# Altium footprint library Connector_PinSocket_2.54mm.PcbLib: 278 footprints (part 6 of 18)
Each footprint in its own frame and in the unit in brackets; x right, y up, seen from the top. Pads: shape width x height; smd on the part's side, far side on the other; paste and mask are expansions set on the pad; w line width, h text height; cw(c..) or ccw(c..) is an arc to the next point about the centre after c.
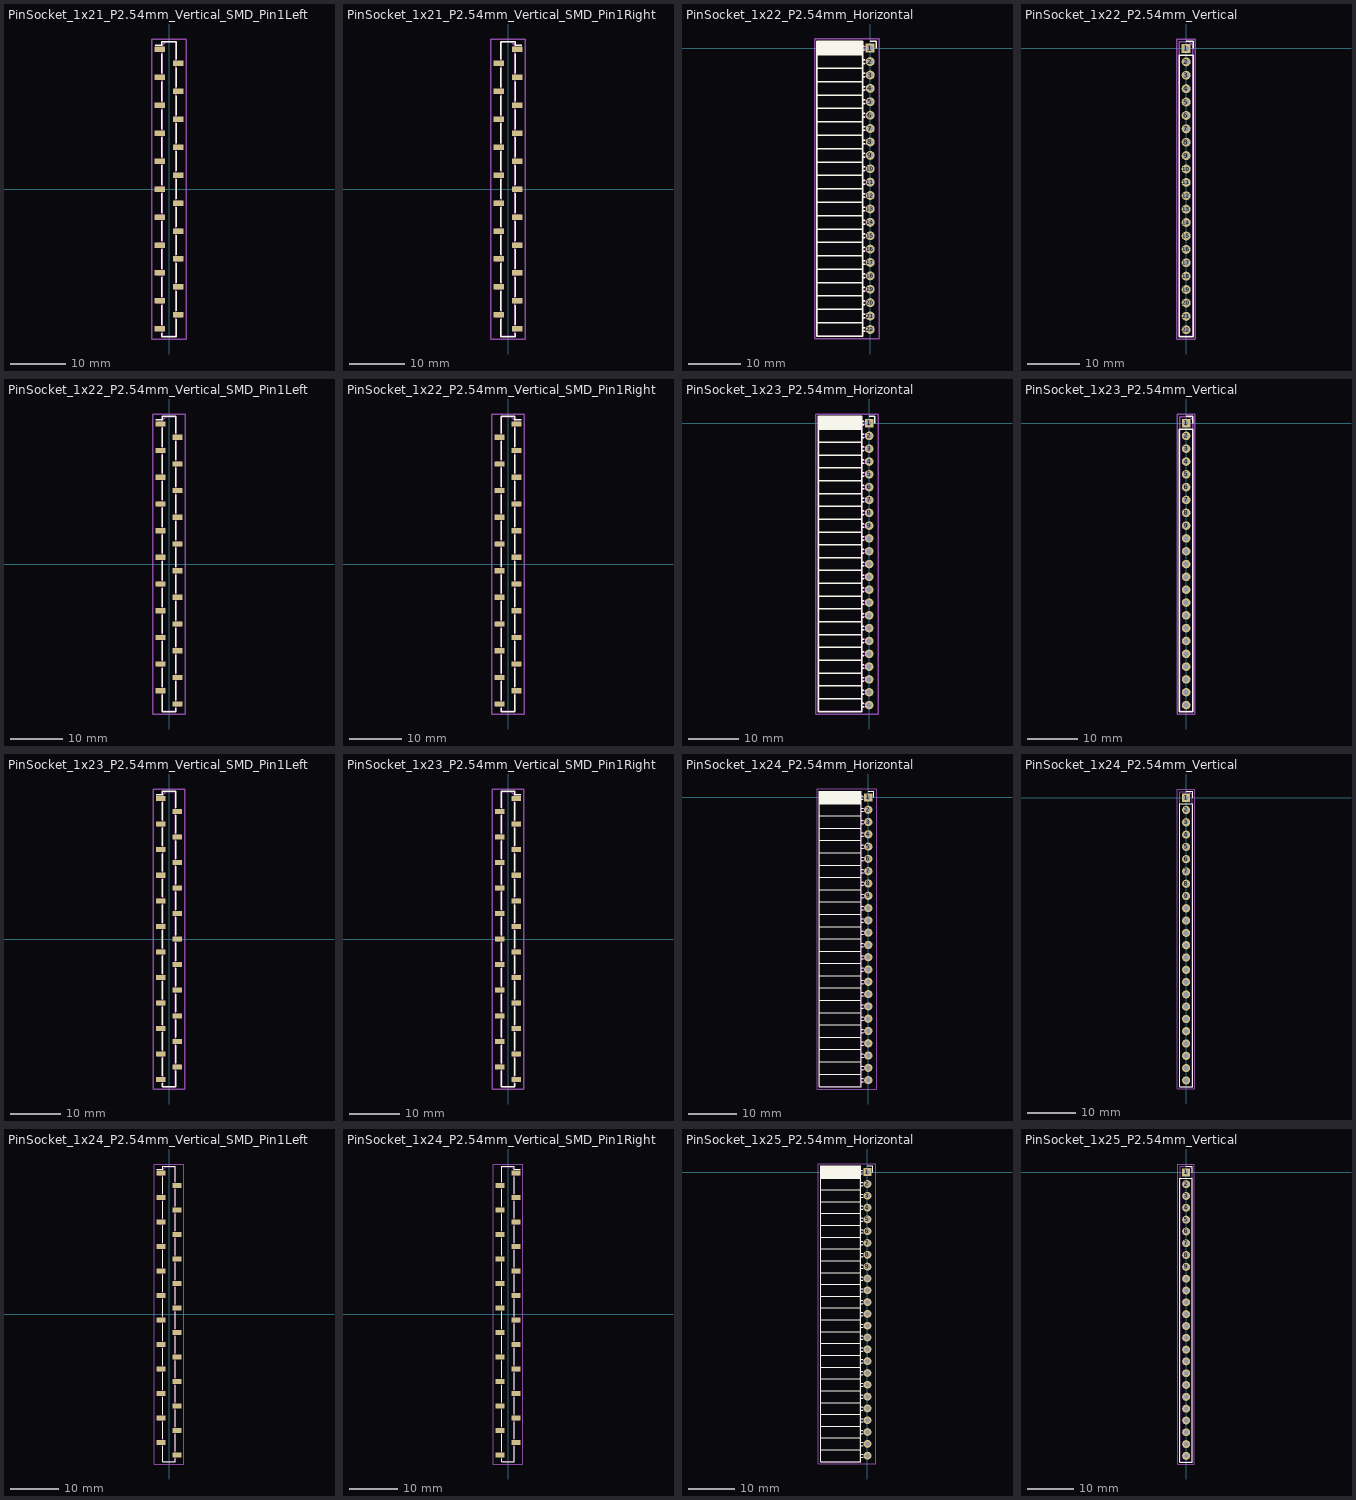
[diagram p5: the footprints below, top view; thin cyan lines are the x and y axes]

## PinSocket_1x21_P2.54mm_Vertical_SMD_Pin1Left [mm]
pads (21):
  rect 1.9x1 smd: 1(-1.65,25.4) 2(1.65,22.86) 3(-1.65,20.32) 4(1.65,17.78) 5(-1.65,15.24) 6(1.65,12.7) 7(-1.65,10.16) 8(1.65,7.62) 9(-1.65,5.08) 10(1.65,2.54) 11(-1.65,0) 12(1.65,-2.54) 13(-1.65,-5.08) 14(1.65,-7.62) 15(-1.65,-10.16) 16(1.65,-12.7) 17(-1.65,-15.24) 18(1.65,-17.78) 19(-1.65,-20.32) 20(1.65,-22.86) 21(-1.65,-25.4)
F.SilkS:
  lines w0.254: -2.54,26.16 -1.33,26.16 -1.33,26.83 1.33,26.83 1.33,23.62 ; -1.33,-26.16 -1.33,-26.83 1.33,-26.83 1.33,-23.62 ; -1.33,-24.64 -1.33,-21.08 ; -1.33,-19.56 -1.33,-16 ; -1.33,-14.48 -1.33,-10.92 ; -1.33,-9.4 -1.33,-5.84 ; -1.33,-4.32 -1.33,-0.76 ; -1.33,0.76 -1.33,4.32 ; -1.33,5.84 -1.33,9.4 ; -1.33,10.92 -1.33,14.48 ; -1.33,16 -1.33,19.56 ; -1.33,21.08 -1.33,24.64 ; 1.33,-22.1 1.33,-18.54 ; 1.33,-17.02 1.33,-13.46 ; 1.33,-11.94 1.33,-8.38 ; 1.33,-6.86 1.33,-3.3 ; 1.33,-1.78 1.33,1.78 ; 1.33,3.3 1.33,6.86 ; 1.33,8.38 1.33,11.94 ; 1.33,13.46 1.33,17.02 ; 1.33,18.54 1.33,22.1
Top Assembly:
  lines w0.254: -1.27,-25.7 -2.27,-25.7 -2.27,-25.1 -1.27,-25.1 ; -1.27,-20.62 -2.27,-20.62 -2.27,-20.02 -1.27,-20.02 ; -1.27,-15.54 -2.27,-15.54 -2.27,-14.94 -1.27,-14.94 ; -1.27,-10.46 -2.27,-10.46 -2.27,-9.86 -1.27,-9.86 ; -1.27,-5.38 -2.27,-5.38 -2.27,-4.78 -1.27,-4.78 ; -1.27,-0.3 -2.27,-0.3 -2.27,0.3 -1.27,0.3 ; -1.27,4.78 -2.27,4.78 -2.27,5.38 -1.27,5.38 ; -1.27,9.86 -2.27,9.86 -2.27,10.46 -1.27,10.46 ; -1.27,14.94 -2.27,14.94 -2.27,15.54 -1.27,15.54 ; -1.27,20.02 -2.27,20.02 -2.27,20.62 -1.27,20.62 ; -1.27,25.1 -2.27,25.1 -2.27,25.7 -1.27,25.7 ; 1.27,-23.16 2.27,-23.16 2.27,-22.56 1.27,-22.56 ; 1.27,-18.08 2.27,-18.08 2.27,-17.48 1.27,-17.48 ; 1.27,-13 2.27,-13 2.27,-12.4 1.27,-12.4 ; 1.27,-7.92 2.27,-7.92 2.27,-7.32 1.27,-7.32 ; 1.27,-2.84 2.27,-2.84 2.27,-2.24 1.27,-2.24 ; 1.27,2.24 2.27,2.24 2.27,2.84 1.27,2.84 ; 1.27,7.32 2.27,7.32 2.27,7.92 1.27,7.92 ; 1.27,12.4 2.27,12.4 2.27,13 1.27,13 ; 1.27,17.48 2.27,17.48 2.27,18.08 1.27,18.08 ; 1.27,22.56 2.27,22.56 2.27,23.16 1.27,23.16 ; -1.27,-26.77 1.27,-26.77 1.27,26.77 -0.635,26.77 -1.27,26.135 -1.27,-26.77
  text "'.Designator'" at 0.84,-4.047 h1
Top Courtyard:
  lines w0.254: -3.1,-27.25 3.1,-27.25 3.1,27.3 -3.1,27.3 -3.1,-27.25
Top Designator:
  text ".Designator" at -7.618,-0.483 h1.52

## PinSocket_1x21_P2.54mm_Vertical_SMD_Pin1Right [mm]
pads (21):
  rect 1.9x1 smd: 1(1.65,25.4) 2(-1.65,22.86) 3(1.65,20.32) 4(-1.65,17.78) 5(1.65,15.24) 6(-1.65,12.7) 7(1.65,10.16) 8(-1.65,7.62) 9(1.65,5.08) 10(-1.65,2.54) 11(1.65,0) 12(-1.65,-2.54) 13(1.65,-5.08) 14(-1.65,-7.62) 15(1.65,-10.16) 16(-1.65,-12.7) 17(1.65,-15.24) 18(-1.65,-17.78) 19(1.65,-20.32) 20(-1.65,-22.86) 21(1.65,-25.4)
F.SilkS:
  lines w0.254: -1.33,-23.62 -1.33,-26.83 1.33,-26.83 1.33,-26.16 ; -1.33,-22.1 -1.33,-18.54 ; -1.33,-17.02 -1.33,-13.46 ; -1.33,-11.94 -1.33,-8.38 ; -1.33,-6.86 -1.33,-3.3 ; -1.33,-1.78 -1.33,1.78 ; -1.33,3.3 -1.33,6.86 ; -1.33,8.38 -1.33,11.94 ; -1.33,13.46 -1.33,17.02 ; -1.33,18.54 -1.33,22.1 ; -1.33,23.62 -1.33,26.83 1.33,26.83 1.33,26.16 2.54,26.16 ; 1.33,-24.64 1.33,-21.08 ; 1.33,-19.56 1.33,-16 ; 1.33,-14.48 1.33,-10.92 ; 1.33,-9.4 1.33,-5.84 ; 1.33,-4.32 1.33,-0.76 ; 1.33,0.76 1.33,4.32 ; 1.33,5.84 1.33,9.4 ; 1.33,10.92 1.33,14.48 ; 1.33,16 1.33,19.56 ; 1.33,21.08 1.33,24.64
Top Assembly:
  lines w0.254: -1.27,-23.16 -2.27,-23.16 -2.27,-22.56 -1.27,-22.56 ; -1.27,-18.08 -2.27,-18.08 -2.27,-17.48 -1.27,-17.48 ; -1.27,-13 -2.27,-13 -2.27,-12.4 -1.27,-12.4 ; -1.27,-7.92 -2.27,-7.92 -2.27,-7.32 -1.27,-7.32 ; -1.27,-2.84 -2.27,-2.84 -2.27,-2.24 -1.27,-2.24 ; -1.27,2.24 -2.27,2.24 -2.27,2.84 -1.27,2.84 ; -1.27,7.32 -2.27,7.32 -2.27,7.92 -1.27,7.92 ; -1.27,12.4 -2.27,12.4 -2.27,13 -1.27,13 ; -1.27,17.48 -2.27,17.48 -2.27,18.08 -1.27,18.08 ; -1.27,22.56 -2.27,22.56 -2.27,23.16 -1.27,23.16 ; 1.27,-25.7 2.27,-25.7 2.27,-25.1 1.27,-25.1 ; 1.27,-20.62 2.27,-20.62 2.27,-20.02 1.27,-20.02 ; 1.27,-15.54 2.27,-15.54 2.27,-14.94 1.27,-14.94 ; 1.27,-10.46 2.27,-10.46 2.27,-9.86 1.27,-9.86 ; 1.27,-5.38 2.27,-5.38 2.27,-4.78 1.27,-4.78 ; 1.27,-0.3 2.27,-0.3 2.27,0.3 1.27,0.3 ; 1.27,4.78 2.27,4.78 2.27,5.38 1.27,5.38 ; 1.27,9.86 2.27,9.86 2.27,10.46 1.27,10.46 ; 1.27,14.94 2.27,14.94 2.27,15.54 1.27,15.54 ; 1.27,20.02 2.27,20.02 2.27,20.62 1.27,20.62 ; 1.27,25.1 2.27,25.1 2.27,25.7 1.27,25.7 ; -1.27,-26.77 1.27,-26.77 1.27,26.135 0.635,26.77 -1.27,26.77 -1.27,-26.77
  text "'.Designator'" at 0.84,-4.047 h1
Top Courtyard:
  lines w0.254: -3.1,-27.25 3.1,-27.25 3.1,27.3 -3.1,27.3 -3.1,-27.25
Top Designator:
  text ".Designator" at -7.618,-0.483 h1.52

## PinSocket_1x22_P2.54mm_Horizontal [mm]
pads (22):
  rect 1.7x1.7 hole 1: 1(0,0)
  round 1.7 hole 1: 2(0,-2.54) 3(0,-5.08) 4(0,-7.62) 5(0,-10.16) 6(0,-12.7) 7(0,-15.24) 8(0,-17.78) 9(0,-20.32) 10(0,-22.86) 11(0,-25.4) 12(0,-27.94) 13(0,-30.48) 14(0,-33.02) 15(0,-35.56) 16(0,-38.1) 17(0,-40.64) 18(0,-43.18) 19(0,-45.72) 20(0,-48.26) 21(0,-50.8) 22(0,-53.34)
F.SilkS:
  lines w0.254: -10.09,-52.07 -1.46,-52.07 ; -10.09,-49.53 -1.46,-49.53 ; -10.09,-46.99 -1.46,-46.99 ; -10.09,-44.45 -1.46,-44.45 ; -10.09,-41.91 -1.46,-41.91 ; -10.09,-39.37 -1.46,-39.37 ; -10.09,-36.83 -1.46,-36.83 ; -10.09,-34.29 -1.46,-34.29 ; -10.09,-31.75 -1.46,-31.75 ; -10.09,-29.21 -1.46,-29.21 ; -10.09,-26.67 -1.46,-26.67 ; -10.09,-24.13 -1.46,-24.13 ; -10.09,-21.59 -1.46,-21.59 ; -10.09,-19.05 -1.46,-19.05 ; -10.09,-16.51 -1.46,-16.51 ; -10.09,-13.97 -1.46,-13.97 ; -10.09,-11.43 -1.46,-11.43 ; -10.09,-8.89 -1.46,-8.89 ; -10.09,-6.35 -1.46,-6.35 ; -10.09,-3.81 -1.46,-3.81 ; -10.09,-1.27 -1.46,-1.27 ; -10.09,-1.152 -1.46,-1.152 ; -10.09,-1.034 -1.46,-1.034 ; -10.09,-0.916 -1.46,-0.916 ; -10.09,-0.798 -1.46,-0.798 ; -10.09,-0.68 -1.46,-0.68 ; -10.09,-0.561 -1.46,-0.561 ; -10.09,-0.443 -1.46,-0.443 ; -10.09,-0.325 -1.46,-0.325 ; -10.09,-0.207 -1.46,-0.207 ; -10.09,-0.089 -1.46,-0.089 ; -10.09,0.029 -1.46,0.029 ; -10.09,0.147 -1.46,0.147 ; -10.09,0.265 -1.46,0.265 ; -10.09,0.383 -1.46,0.383 ; -10.09,0.501 -1.46,0.501 ; -10.09,0.62 -1.46,0.62 ; -10.09,0.738 -1.46,0.738 ; -10.09,0.856 -1.46,0.856 ; -10.09,0.974 -1.46,0.974 ; -10.09,1.092 -1.46,1.092 ; -10.09,1.21 -1.46,1.21 ; -1.46,-53.7 -1.05,-53.7 ; -1.46,-52.98 -1.05,-52.98 ; -1.46,-51.16 -1.05,-51.16 ; -1.46,-50.44 -1.05,-50.44 ; -1.46,-48.62 -1.05,-48.62 ; -1.46,-47.9 -1.05,-47.9 ; -1.46,-46.08 -1.05,-46.08 ; -1.46,-45.36 -1.05,-45.36 ; -1.46,-43.54 -1.05,-43.54 ; -1.46,-42.82 -1.05,-42.82 ; -1.46,-41 -1.05,-41 ; -1.46,-40.28 -1.05,-40.28 ; -1.46,-38.46 -1.05,-38.46 ; -1.46,-37.74 -1.05,-37.74 ; -1.46,-35.92 -1.05,-35.92 ; -1.46,-35.2 -1.05,-35.2 ; -1.46,-33.38 -1.05,-33.38 ; -1.46,-32.66 -1.05,-32.66 ; -1.46,-30.84 -1.05,-30.84 ; -1.46,-30.12 -1.05,-30.12 ; -1.46,-28.3 -1.05,-28.3 ; -1.46,-27.58 -1.05,-27.58 ; -1.46,-25.76 -1.05,-25.76 ; -1.46,-25.04 -1.05,-25.04 ; -1.46,-23.22 -1.05,-23.22 ; -1.46,-22.5 -1.05,-22.5 ; -1.46,-20.68 -1.05,-20.68 ; -1.46,-19.96 -1.05,-19.96 ; -1.46,-18.14 -1.05,-18.14 ; -1.46,-17.42 -1.05,-17.42 ; -1.46,-15.6 -1.05,-15.6 ; -1.46,-14.88 -1.05,-14.88 ; -1.46,-13.06 -1.05,-13.06 ; -1.46,-12.34 -1.05,-12.34 ; -1.46,-10.52 -1.05,-10.52 ; -1.46,-9.8 -1.05,-9.8 ; -1.46,-7.98 -1.05,-7.98 ; -1.46,-7.26 -1.05,-7.26 ; -1.46,-5.44 -1.05,-5.44 ; -1.46,-4.72 -1.05,-4.72 ; -1.46,-2.9 -1.05,-2.9 ; -1.46,-2.18 -1.05,-2.18 ; -1.46,-0.36 -1.11,-0.36 ; -1.46,0.36 -1.11,0.36 ; 0,1.33 1.11,1.33 1.11,0 ; -10.09,-54.67 -1.46,-54.67 -1.46,1.33 -10.09,1.33 -10.09,-54.67
Top Assembly:
  lines w0.254: -1.52,-53.64 0,-53.64 0,-53.04 -1.52,-53.04 ; -1.52,-51.1 0,-51.1 0,-50.5 -1.52,-50.5 ; -1.52,-48.56 0,-48.56 0,-47.96 -1.52,-47.96 ; -1.52,-46.02 0,-46.02 0,-45.42 -1.52,-45.42 ; -1.52,-43.48 0,-43.48 0,-42.88 -1.52,-42.88 ; -1.52,-40.94 0,-40.94 0,-40.34 -1.52,-40.34 ; -1.52,-38.4 0,-38.4 0,-37.8 -1.52,-37.8 ; -1.52,-35.86 0,-35.86 0,-35.26 -1.52,-35.26 ; -1.52,-33.32 0,-33.32 0,-32.72 -1.52,-32.72 ; -1.52,-30.78 0,-30.78 0,-30.18 -1.52,-30.18 ; -1.52,-28.24 0,-28.24 0,-27.64 -1.52,-27.64 ; -1.52,-25.7 0,-25.7 0,-25.1 -1.52,-25.1 ; -1.52,-23.16 0,-23.16 0,-22.56 -1.52,-22.56 ; -1.52,-20.62 0,-20.62 0,-20.02 -1.52,-20.02 ; -1.52,-18.08 0,-18.08 0,-17.48 -1.52,-17.48 ; -1.52,-15.54 0,-15.54 0,-14.94 -1.52,-14.94 ; -1.52,-13 0,-13 0,-12.4 -1.52,-12.4 ; -1.52,-10.46 0,-10.46 0,-9.86 -1.52,-9.86 ; -1.52,-7.92 0,-7.92 0,-7.32 -1.52,-7.32 ; -1.52,-5.38 0,-5.38 0,-4.78 -1.52,-4.78 ; -1.52,-2.84 0,-2.84 0,-2.24 -1.52,-2.24 ; -1.52,-0.3 0,-0.3 0,0.3 -1.52,0.3 ; -1.52,0.3 -1.52,-54.61 -10.03,-54.61 -10.03,1.27 -2.49,1.27 -1.52,0.3
  text "'.Designator'" at -4.935,-30.717 h1
Top Courtyard:
  lines w0.254: -10.55,-55.15 1.75,-55.15 1.75,1.75 -10.55,1.75 -10.55,-55.15
Top Designator:
  text ".Designator" at -12.018,-27.208 h1.52

## PinSocket_1x22_P2.54mm_Vertical [mm]
pads (22):
  rect 1.7x1.7 hole 1: 1(0,0)
  round 1.7 hole 1: 2(0,-2.54) 3(0,-5.08) 4(0,-7.62) 5(0,-10.16) 6(0,-12.7) 7(0,-15.24) 8(0,-17.78) 9(0,-20.32) 10(0,-22.86) 11(0,-25.4) 12(0,-27.94) 13(0,-30.48) 14(0,-33.02) 15(0,-35.56) 16(0,-38.1) 17(0,-40.64) 18(0,-43.18) 19(0,-45.72) 20(0,-48.26) 21(0,-50.8) 22(0,-53.34)
F.SilkS:
  lines w0.254: 0,1.33 1.33,1.33 1.33,0 ; -1.33,-54.67 1.33,-54.67 1.33,-1.27 -1.33,-1.27 -1.33,-54.67
Top Assembly:
  lines w0.254: -1.27,-54.61 1.27,-54.61 1.27,0.635 0.635,1.27 -1.27,1.27 -1.27,-54.61
  text "'.Designator'" at 0.84,-30.717 h1
Top Courtyard:
  lines w0.254: -1.8,-55.1 1.75,-55.1 1.75,1.8 -1.8,1.8 -1.8,-55.1
Top Designator:
  text ".Designator" at -7.643,-27.158 h1.52

## PinSocket_1x22_P2.54mm_Vertical_SMD_Pin1Left [mm]
pads (22):
  rect 1.9x1 smd: 1(-1.65,26.67) 2(1.65,24.13) 3(-1.65,21.59) 4(1.65,19.05) 5(-1.65,16.51) 6(1.65,13.97) 7(-1.65,11.43) 8(1.65,8.89) 9(-1.65,6.35) 10(1.65,3.81) 11(-1.65,1.27) 12(1.65,-1.27) 13(-1.65,-3.81) 14(1.65,-6.35) 15(-1.65,-8.89) 16(1.65,-11.43) 17(-1.65,-13.97) 18(1.65,-16.51) 19(-1.65,-19.05) 20(1.65,-21.59) 21(-1.65,-24.13) 22(1.65,-26.67)
F.SilkS:
  lines w0.254: -2.54,27.43 -1.33,27.43 -1.33,28.1 1.33,28.1 1.33,24.89 ; -1.33,-24.89 -1.33,-28.1 1.33,-28.1 1.33,-27.43 ; -1.33,-23.37 -1.33,-19.81 ; -1.33,-18.29 -1.33,-14.73 ; -1.33,-13.21 -1.33,-9.65 ; -1.33,-8.13 -1.33,-4.57 ; -1.33,-3.05 -1.33,0.51 ; -1.33,2.03 -1.33,5.59 ; -1.33,7.11 -1.33,10.67 ; -1.33,12.19 -1.33,15.75 ; -1.33,17.27 -1.33,20.83 ; -1.33,22.35 -1.33,25.91 ; 1.33,-25.91 1.33,-22.35 ; 1.33,-20.83 1.33,-17.27 ; 1.33,-15.75 1.33,-12.19 ; 1.33,-10.67 1.33,-7.11 ; 1.33,-5.59 1.33,-2.03 ; 1.33,-0.51 1.33,3.05 ; 1.33,4.57 1.33,8.13 ; 1.33,9.65 1.33,13.21 ; 1.33,14.73 1.33,18.29 ; 1.33,19.81 1.33,23.37
Top Assembly:
  lines w0.254: -1.27,-24.43 -2.27,-24.43 -2.27,-23.83 -1.27,-23.83 ; -1.27,-19.35 -2.27,-19.35 -2.27,-18.75 -1.27,-18.75 ; -1.27,-14.27 -2.27,-14.27 -2.27,-13.67 -1.27,-13.67 ; -1.27,-9.19 -2.27,-9.19 -2.27,-8.59 -1.27,-8.59 ; -1.27,-4.11 -2.27,-4.11 -2.27,-3.51 -1.27,-3.51 ; -1.27,0.97 -2.27,0.97 -2.27,1.57 -1.27,1.57 ; -1.27,6.05 -2.27,6.05 -2.27,6.65 -1.27,6.65 ; -1.27,11.13 -2.27,11.13 -2.27,11.73 -1.27,11.73 ; -1.27,16.21 -2.27,16.21 -2.27,16.81 -1.27,16.81 ; -1.27,21.29 -2.27,21.29 -2.27,21.89 -1.27,21.89 ; -1.27,26.37 -2.27,26.37 -2.27,26.97 -1.27,26.97 ; 1.27,-26.97 2.27,-26.97 2.27,-26.37 1.27,-26.37 ; 1.27,-21.89 2.27,-21.89 2.27,-21.29 1.27,-21.29 ; 1.27,-16.81 2.27,-16.81 2.27,-16.21 1.27,-16.21 ; 1.27,-11.73 2.27,-11.73 2.27,-11.13 1.27,-11.13 ; 1.27,-6.65 2.27,-6.65 2.27,-6.05 1.27,-6.05 ; 1.27,-1.57 2.27,-1.57 2.27,-0.97 1.27,-0.97 ; 1.27,3.51 2.27,3.51 2.27,4.11 1.27,4.11 ; 1.27,8.59 2.27,8.59 2.27,9.19 1.27,9.19 ; 1.27,13.67 2.27,13.67 2.27,14.27 1.27,14.27 ; 1.27,18.75 2.27,18.75 2.27,19.35 1.27,19.35 ; 1.27,23.83 2.27,23.83 2.27,24.43 1.27,24.43 ; -1.27,-28.04 1.27,-28.04 1.27,28.04 -0.635,28.04 -1.27,27.405 -1.27,-28.04
  text "'.Designator'" at 0.84,-4.047 h1
Top Courtyard:
  lines w0.254: -3.1,-28.55 3.1,-28.55 3.1,28.55 -3.1,28.55 -3.1,-28.55
Top Designator:
  text ".Designator" at -7.618,-0.508 h1.52

## PinSocket_1x22_P2.54mm_Vertical_SMD_Pin1Right [mm]
pads (22):
  rect 1.9x1 smd: 1(1.65,26.67) 2(-1.65,24.13) 3(1.65,21.59) 4(-1.65,19.05) 5(1.65,16.51) 6(-1.65,13.97) 7(1.65,11.43) 8(-1.65,8.89) 9(1.65,6.35) 10(-1.65,3.81) 11(1.65,1.27) 12(-1.65,-1.27) 13(1.65,-3.81) 14(-1.65,-6.35) 15(1.65,-8.89) 16(-1.65,-11.43) 17(1.65,-13.97) 18(-1.65,-16.51) 19(1.65,-19.05) 20(-1.65,-21.59) 21(1.65,-24.13) 22(-1.65,-26.67)
F.SilkS:
  lines w0.254: -1.33,-27.43 -1.33,-28.1 1.33,-28.1 1.33,-24.89 ; -1.33,-25.91 -1.33,-22.35 ; -1.33,-20.83 -1.33,-17.27 ; -1.33,-15.75 -1.33,-12.19 ; -1.33,-10.67 -1.33,-7.11 ; -1.33,-5.59 -1.33,-2.03 ; -1.33,-0.51 -1.33,3.05 ; -1.33,4.57 -1.33,8.13 ; -1.33,9.65 -1.33,13.21 ; -1.33,14.73 -1.33,18.29 ; -1.33,19.81 -1.33,23.37 ; -1.33,24.89 -1.33,28.1 1.33,28.1 1.33,27.43 2.54,27.43 ; 1.33,-23.37 1.33,-19.81 ; 1.33,-18.29 1.33,-14.73 ; 1.33,-13.21 1.33,-9.65 ; 1.33,-8.13 1.33,-4.57 ; 1.33,-3.05 1.33,0.51 ; 1.33,2.03 1.33,5.59 ; 1.33,7.11 1.33,10.67 ; 1.33,12.19 1.33,15.75 ; 1.33,17.27 1.33,20.83 ; 1.33,22.35 1.33,25.91
Top Assembly:
  lines w0.254: -1.27,-26.97 -2.27,-26.97 -2.27,-26.37 -1.27,-26.37 ; -1.27,-21.89 -2.27,-21.89 -2.27,-21.29 -1.27,-21.29 ; -1.27,-16.81 -2.27,-16.81 -2.27,-16.21 -1.27,-16.21 ; -1.27,-11.73 -2.27,-11.73 -2.27,-11.13 -1.27,-11.13 ; -1.27,-6.65 -2.27,-6.65 -2.27,-6.05 -1.27,-6.05 ; -1.27,-1.57 -2.27,-1.57 -2.27,-0.97 -1.27,-0.97 ; -1.27,3.51 -2.27,3.51 -2.27,4.11 -1.27,4.11 ; -1.27,8.59 -2.27,8.59 -2.27,9.19 -1.27,9.19 ; -1.27,13.67 -2.27,13.67 -2.27,14.27 -1.27,14.27 ; -1.27,18.75 -2.27,18.75 -2.27,19.35 -1.27,19.35 ; -1.27,23.83 -2.27,23.83 -2.27,24.43 -1.27,24.43 ; 1.27,-24.43 2.27,-24.43 2.27,-23.83 1.27,-23.83 ; 1.27,-19.35 2.27,-19.35 2.27,-18.75 1.27,-18.75 ; 1.27,-14.27 2.27,-14.27 2.27,-13.67 1.27,-13.67 ; 1.27,-9.19 2.27,-9.19 2.27,-8.59 1.27,-8.59 ; 1.27,-4.11 2.27,-4.11 2.27,-3.51 1.27,-3.51 ; 1.27,0.97 2.27,0.97 2.27,1.57 1.27,1.57 ; 1.27,6.05 2.27,6.05 2.27,6.65 1.27,6.65 ; 1.27,11.13 2.27,11.13 2.27,11.73 1.27,11.73 ; 1.27,16.21 2.27,16.21 2.27,16.81 1.27,16.81 ; 1.27,21.29 2.27,21.29 2.27,21.89 1.27,21.89 ; 1.27,26.37 2.27,26.37 2.27,26.97 1.27,26.97 ; -1.27,-28.04 1.27,-28.04 1.27,27.405 0.635,28.04 -1.27,28.04 -1.27,-28.04
  text "'.Designator'" at 0.84,-4.047 h1
Top Courtyard:
  lines w0.254: -3.1,-28.55 3.1,-28.55 3.1,28.55 -3.1,28.55 -3.1,-28.55
Top Designator:
  text ".Designator" at -7.618,-0.508 h1.52

## PinSocket_1x23_P2.54mm_Horizontal [mm]
pads (23):
  rect 1.7x1.7 hole 1: 1(0,0)
  round 1.7 hole 1: 2(0,-2.54) 3(0,-5.08) 4(0,-7.62) 5(0,-10.16) 6(0,-12.7) 7(0,-15.24) 8(0,-17.78) 9(0,-20.32) 10(0,-22.86) 11(0,-25.4) 12(0,-27.94) 13(0,-30.48) 14(0,-33.02) 15(0,-35.56) 16(0,-38.1) 17(0,-40.64) 18(0,-43.18) 19(0,-45.72) 20(0,-48.26) 21(0,-50.8) 22(0,-53.34) 23(0,-55.88)
F.SilkS:
  lines w0.254: -10.09,-54.61 -1.46,-54.61 ; -10.09,-52.07 -1.46,-52.07 ; -10.09,-49.53 -1.46,-49.53 ; -10.09,-46.99 -1.46,-46.99 ; -10.09,-44.45 -1.46,-44.45 ; -10.09,-41.91 -1.46,-41.91 ; -10.09,-39.37 -1.46,-39.37 ; -10.09,-36.83 -1.46,-36.83 ; -10.09,-34.29 -1.46,-34.29 ; -10.09,-31.75 -1.46,-31.75 ; -10.09,-29.21 -1.46,-29.21 ; -10.09,-26.67 -1.46,-26.67 ; -10.09,-24.13 -1.46,-24.13 ; -10.09,-21.59 -1.46,-21.59 ; -10.09,-19.05 -1.46,-19.05 ; -10.09,-16.51 -1.46,-16.51 ; -10.09,-13.97 -1.46,-13.97 ; -10.09,-11.43 -1.46,-11.43 ; -10.09,-8.89 -1.46,-8.89 ; -10.09,-6.35 -1.46,-6.35 ; -10.09,-3.81 -1.46,-3.81 ; -10.09,-1.27 -1.46,-1.27 ; -10.09,-1.152 -1.46,-1.152 ; -10.09,-1.034 -1.46,-1.034 ; -10.09,-0.916 -1.46,-0.916 ; -10.09,-0.798 -1.46,-0.798 ; -10.09,-0.68 -1.46,-0.68 ; -10.09,-0.561 -1.46,-0.561 ; -10.09,-0.443 -1.46,-0.443 ; -10.09,-0.325 -1.46,-0.325 ; -10.09,-0.207 -1.46,-0.207 ; -10.09,-0.089 -1.46,-0.089 ; -10.09,0.029 -1.46,0.029 ; -10.09,0.147 -1.46,0.147 ; -10.09,0.265 -1.46,0.265 ; -10.09,0.383 -1.46,0.383 ; -10.09,0.501 -1.46,0.501 ; -10.09,0.62 -1.46,0.62 ; -10.09,0.738 -1.46,0.738 ; -10.09,0.856 -1.46,0.856 ; -10.09,0.974 -1.46,0.974 ; -10.09,1.092 -1.46,1.092 ; -10.09,1.21 -1.46,1.21 ; -1.46,-56.24 -1.05,-56.24 ; -1.46,-55.52 -1.05,-55.52 ; -1.46,-53.7 -1.05,-53.7 ; -1.46,-52.98 -1.05,-52.98 ; -1.46,-51.16 -1.05,-51.16 ; -1.46,-50.44 -1.05,-50.44 ; -1.46,-48.62 -1.05,-48.62 ; -1.46,-47.9 -1.05,-47.9 ; -1.46,-46.08 -1.05,-46.08 ; -1.46,-45.36 -1.05,-45.36 ; -1.46,-43.54 -1.05,-43.54 ; -1.46,-42.82 -1.05,-42.82 ; -1.46,-41 -1.05,-41 ; -1.46,-40.28 -1.05,-40.28 ; -1.46,-38.46 -1.05,-38.46 ; -1.46,-37.74 -1.05,-37.74 ; -1.46,-35.92 -1.05,-35.92 ; -1.46,-35.2 -1.05,-35.2 ; -1.46,-33.38 -1.05,-33.38 ; -1.46,-32.66 -1.05,-32.66 ; -1.46,-30.84 -1.05,-30.84 ; -1.46,-30.12 -1.05,-30.12 ; -1.46,-28.3 -1.05,-28.3 ; -1.46,-27.58 -1.05,-27.58 ; -1.46,-25.76 -1.05,-25.76 ; -1.46,-25.04 -1.05,-25.04 ; -1.46,-23.22 -1.05,-23.22 ; -1.46,-22.5 -1.05,-22.5 ; -1.46,-20.68 -1.05,-20.68 ; -1.46,-19.96 -1.05,-19.96 ; -1.46,-18.14 -1.05,-18.14 ; -1.46,-17.42 -1.05,-17.42 ; -1.46,-15.6 -1.05,-15.6 ; -1.46,-14.88 -1.05,-14.88 ; -1.46,-13.06 -1.05,-13.06 ; -1.46,-12.34 -1.05,-12.34 ; -1.46,-10.52 -1.05,-10.52 ; -1.46,-9.8 -1.05,-9.8 ; -1.46,-7.98 -1.05,-7.98 ; -1.46,-7.26 -1.05,-7.26 ; -1.46,-5.44 -1.05,-5.44 ; -1.46,-4.72 -1.05,-4.72 ; -1.46,-2.9 -1.05,-2.9 ; -1.46,-2.18 -1.05,-2.18 ; -1.46,-0.36 -1.11,-0.36 ; -1.46,0.36 -1.11,0.36 ; 0,1.33 1.11,1.33 1.11,0 ; -10.09,-57.21 -1.46,-57.21 -1.46,1.33 -10.09,1.33 -10.09,-57.21
Top Assembly:
  lines w0.254: -1.52,-56.18 0,-56.18 0,-55.58 -1.52,-55.58 ; -1.52,-53.64 0,-53.64 0,-53.04 -1.52,-53.04 ; -1.52,-51.1 0,-51.1 0,-50.5 -1.52,-50.5 ; -1.52,-48.56 0,-48.56 0,-47.96 -1.52,-47.96 ; -1.52,-46.02 0,-46.02 0,-45.42 -1.52,-45.42 ; -1.52,-43.48 0,-43.48 0,-42.88 -1.52,-42.88 ; -1.52,-40.94 0,-40.94 0,-40.34 -1.52,-40.34 ; -1.52,-38.4 0,-38.4 0,-37.8 -1.52,-37.8 ; -1.52,-35.86 0,-35.86 0,-35.26 -1.52,-35.26 ; -1.52,-33.32 0,-33.32 0,-32.72 -1.52,-32.72 ; -1.52,-30.78 0,-30.78 0,-30.18 -1.52,-30.18 ; -1.52,-28.24 0,-28.24 0,-27.64 -1.52,-27.64 ; -1.52,-25.7 0,-25.7 0,-25.1 -1.52,-25.1 ; -1.52,-23.16 0,-23.16 0,-22.56 -1.52,-22.56 ; -1.52,-20.62 0,-20.62 0,-20.02 -1.52,-20.02 ; -1.52,-18.08 0,-18.08 0,-17.48 -1.52,-17.48 ; -1.52,-15.54 0,-15.54 0,-14.94 -1.52,-14.94 ; -1.52,-13 0,-13 0,-12.4 -1.52,-12.4 ; -1.52,-10.46 0,-10.46 0,-9.86 -1.52,-9.86 ; -1.52,-7.92 0,-7.92 0,-7.32 -1.52,-7.32 ; -1.52,-5.38 0,-5.38 0,-4.78 -1.52,-4.78 ; -1.52,-2.84 0,-2.84 0,-2.24 -1.52,-2.24 ; -1.52,-0.3 0,-0.3 0,0.3 -1.52,0.3 ; -1.52,0.3 -1.52,-57.15 -10.03,-57.15 -10.03,1.27 -2.49,1.27 -1.52,0.3
  text "'.Designator'" at -4.935,-31.987 h1
Top Courtyard:
  lines w0.254: -10.55,-57.65 1.75,-57.65 1.75,1.8 -10.55,1.8 -10.55,-57.65
Top Designator:
  text ".Designator" at -12.018,-28.433 h1.52

## PinSocket_1x23_P2.54mm_Vertical [mm]
pads (23):
  rect 1.7x1.7 hole 1: 1(0,0)
  round 1.7 hole 1: 2(0,-2.54) 3(0,-5.08) 4(0,-7.62) 5(0,-10.16) 6(0,-12.7) 7(0,-15.24) 8(0,-17.78) 9(0,-20.32) 10(0,-22.86) 11(0,-25.4) 12(0,-27.94) 13(0,-30.48) 14(0,-33.02) 15(0,-35.56) 16(0,-38.1) 17(0,-40.64) 18(0,-43.18) 19(0,-45.72) 20(0,-48.26) 21(0,-50.8) 22(0,-53.34) 23(0,-55.88)
F.SilkS:
  lines w0.254: 0,1.33 1.33,1.33 1.33,0 ; -1.33,-57.21 1.33,-57.21 1.33,-1.27 -1.33,-1.27 -1.33,-57.21
Top Assembly:
  lines w0.254: -1.27,-57.15 1.27,-57.15 1.27,0.635 0.635,1.27 -1.27,1.27 -1.27,-57.15
  text "'.Designator'" at 0.84,-31.987 h1
Top Courtyard:
  lines w0.254: -1.8,-57.65 1.75,-57.65 1.75,1.8 -1.8,1.8 -1.8,-57.65
Top Designator:
  text ".Designator" at -7.643,-28.433 h1.52

## PinSocket_1x23_P2.54mm_Vertical_SMD_Pin1Left [mm]
pads (23):
  rect 1.9x1 smd: 1(-1.65,27.94) 2(1.65,25.4) 3(-1.65,22.86) 4(1.65,20.32) 5(-1.65,17.78) 6(1.65,15.24) 7(-1.65,12.7) 8(1.65,10.16) 9(-1.65,7.62) 10(1.65,5.08) 11(-1.65,2.54) 12(1.65,0) 13(-1.65,-2.54) 14(1.65,-5.08) 15(-1.65,-7.62) 16(1.65,-10.16) 17(-1.65,-12.7) 18(1.65,-15.24) 19(-1.65,-17.78) 20(1.65,-20.32) 21(-1.65,-22.86) 22(1.65,-25.4) 23(-1.65,-27.94)
F.SilkS:
  lines w0.254: -2.54,28.7 -1.33,28.7 -1.33,29.37 1.33,29.37 1.33,26.16 ; -1.33,-28.7 -1.33,-29.37 1.33,-29.37 1.33,-26.16 ; -1.33,-27.18 -1.33,-23.62 ; -1.33,-22.1 -1.33,-18.54 ; -1.33,-17.02 -1.33,-13.46 ; -1.33,-11.94 -1.33,-8.38 ; -1.33,-6.86 -1.33,-3.3 ; -1.33,-1.78 -1.33,1.78 ; -1.33,3.3 -1.33,6.86 ; -1.33,8.38 -1.33,11.94 ; -1.33,13.46 -1.33,17.02 ; -1.33,18.54 -1.33,22.1 ; -1.33,23.62 -1.33,27.18 ; 1.33,-24.64 1.33,-21.08 ; 1.33,-19.56 1.33,-16 ; 1.33,-14.48 1.33,-10.92 ; 1.33,-9.4 1.33,-5.84 ; 1.33,-4.32 1.33,-0.76 ; 1.33,0.76 1.33,4.32 ; 1.33,5.84 1.33,9.4 ; 1.33,10.92 1.33,14.48 ; 1.33,16 1.33,19.56 ; 1.33,21.08 1.33,24.64
Top Assembly:
  lines w0.254: -1.27,-28.24 -2.27,-28.24 -2.27,-27.64 -1.27,-27.64 ; -1.27,-23.16 -2.27,-23.16 -2.27,-22.56 -1.27,-22.56 ; -1.27,-18.08 -2.27,-18.08 -2.27,-17.48 -1.27,-17.48 ; -1.27,-13 -2.27,-13 -2.27,-12.4 -1.27,-12.4 ; -1.27,-7.92 -2.27,-7.92 -2.27,-7.32 -1.27,-7.32 ; -1.27,-2.84 -2.27,-2.84 -2.27,-2.24 -1.27,-2.24 ; -1.27,2.24 -2.27,2.24 -2.27,2.84 -1.27,2.84 ; -1.27,7.32 -2.27,7.32 -2.27,7.92 -1.27,7.92 ; -1.27,12.4 -2.27,12.4 -2.27,13 -1.27,13 ; -1.27,17.48 -2.27,17.48 -2.27,18.08 -1.27,18.08 ; -1.27,22.56 -2.27,22.56 -2.27,23.16 -1.27,23.16 ; -1.27,27.64 -2.27,27.64 -2.27,28.24 -1.27,28.24 ; 1.27,-25.7 2.27,-25.7 2.27,-25.1 1.27,-25.1 ; 1.27,-20.62 2.27,-20.62 2.27,-20.02 1.27,-20.02 ; 1.27,-15.54 2.27,-15.54 2.27,-14.94 1.27,-14.94 ; 1.27,-10.46 2.27,-10.46 2.27,-9.86 1.27,-9.86 ; 1.27,-5.38 2.27,-5.38 2.27,-4.78 1.27,-4.78 ; 1.27,-0.3 2.27,-0.3 2.27,0.3 1.27,0.3 ; 1.27,4.78 2.27,4.78 2.27,5.38 1.27,5.38 ; 1.27,9.86 2.27,9.86 2.27,10.46 1.27,10.46 ; 1.27,14.94 2.27,14.94 2.27,15.54 1.27,15.54 ; 1.27,20.02 2.27,20.02 2.27,20.62 1.27,20.62 ; 1.27,25.1 2.27,25.1 2.27,25.7 1.27,25.7 ; -1.27,-29.31 1.27,-29.31 1.27,29.31 -0.635,29.31 -1.27,28.675 -1.27,-29.31
  text "'.Designator'" at 0.84,-4.047 h1
Top Courtyard:
  lines w0.254: -3.1,-29.8 3.1,-29.8 3.1,29.85 -3.1,29.85 -3.1,-29.8
Top Designator:
  text ".Designator" at -7.618,-0.483 h1.52

## PinSocket_1x23_P2.54mm_Vertical_SMD_Pin1Right [mm]
pads (23):
  rect 1.9x1 smd: 1(1.65,27.94) 2(-1.65,25.4) 3(1.65,22.86) 4(-1.65,20.32) 5(1.65,17.78) 6(-1.65,15.24) 7(1.65,12.7) 8(-1.65,10.16) 9(1.65,7.62) 10(-1.65,5.08) 11(1.65,2.54) 12(-1.65,0) 13(1.65,-2.54) 14(-1.65,-5.08) 15(1.65,-7.62) 16(-1.65,-10.16) 17(1.65,-12.7) 18(-1.65,-15.24) 19(1.65,-17.78) 20(-1.65,-20.32) 21(1.65,-22.86) 22(-1.65,-25.4) 23(1.65,-27.94)
F.SilkS:
  lines w0.254: -1.33,-26.16 -1.33,-29.37 1.33,-29.37 1.33,-28.7 ; -1.33,-24.64 -1.33,-21.08 ; -1.33,-19.56 -1.33,-16 ; -1.33,-14.48 -1.33,-10.92 ; -1.33,-9.4 -1.33,-5.84 ; -1.33,-4.32 -1.33,-0.76 ; -1.33,0.76 -1.33,4.32 ; -1.33,5.84 -1.33,9.4 ; -1.33,10.92 -1.33,14.48 ; -1.33,16 -1.33,19.56 ; -1.33,21.08 -1.33,24.64 ; -1.33,26.16 -1.33,29.37 1.33,29.37 1.33,28.7 2.54,28.7 ; 1.33,-27.18 1.33,-23.62 ; 1.33,-22.1 1.33,-18.54 ; 1.33,-17.02 1.33,-13.46 ; 1.33,-11.94 1.33,-8.38 ; 1.33,-6.86 1.33,-3.3 ; 1.33,-1.78 1.33,1.78 ; 1.33,3.3 1.33,6.86 ; 1.33,8.38 1.33,11.94 ; 1.33,13.46 1.33,17.02 ; 1.33,18.54 1.33,22.1 ; 1.33,23.62 1.33,27.18
Top Assembly:
  lines w0.254: -1.27,-25.7 -2.27,-25.7 -2.27,-25.1 -1.27,-25.1 ; -1.27,-20.62 -2.27,-20.62 -2.27,-20.02 -1.27,-20.02 ; -1.27,-15.54 -2.27,-15.54 -2.27,-14.94 -1.27,-14.94 ; -1.27,-10.46 -2.27,-10.46 -2.27,-9.86 -1.27,-9.86 ; -1.27,-5.38 -2.27,-5.38 -2.27,-4.78 -1.27,-4.78 ; -1.27,-0.3 -2.27,-0.3 -2.27,0.3 -1.27,0.3 ; -1.27,4.78 -2.27,4.78 -2.27,5.38 -1.27,5.38 ; -1.27,9.86 -2.27,9.86 -2.27,10.46 -1.27,10.46 ; -1.27,14.94 -2.27,14.94 -2.27,15.54 -1.27,15.54 ; -1.27,20.02 -2.27,20.02 -2.27,20.62 -1.27,20.62 ; -1.27,25.1 -2.27,25.1 -2.27,25.7 -1.27,25.7 ; 1.27,-28.24 2.27,-28.24 2.27,-27.64 1.27,-27.64 ; 1.27,-23.16 2.27,-23.16 2.27,-22.56 1.27,-22.56 ; 1.27,-18.08 2.27,-18.08 2.27,-17.48 1.27,-17.48 ; 1.27,-13 2.27,-13 2.27,-12.4 1.27,-12.4 ; 1.27,-7.92 2.27,-7.92 2.27,-7.32 1.27,-7.32 ; 1.27,-2.84 2.27,-2.84 2.27,-2.24 1.27,-2.24 ; 1.27,2.24 2.27,2.24 2.27,2.84 1.27,2.84 ; 1.27,7.32 2.27,7.32 2.27,7.92 1.27,7.92 ; 1.27,12.4 2.27,12.4 2.27,13 1.27,13 ; 1.27,17.48 2.27,17.48 2.27,18.08 1.27,18.08 ; 1.27,22.56 2.27,22.56 2.27,23.16 1.27,23.16 ; 1.27,27.64 2.27,27.64 2.27,28.24 1.27,28.24 ; -1.27,-29.31 1.27,-29.31 1.27,28.675 0.635,29.31 -1.27,29.31 -1.27,-29.31
  text "'.Designator'" at 0.84,-4.047 h1
Top Courtyard:
  lines w0.254: -3.1,-29.8 3.1,-29.8 3.1,29.85 -3.1,29.85 -3.1,-29.8
Top Designator:
  text ".Designator" at -7.618,-0.483 h1.52

## PinSocket_1x24_P2.54mm_Horizontal [mm]
pads (24):
  rect 1.7x1.7 hole 1: 1(0,0)
  round 1.7 hole 1: 2(0,-2.54) 3(0,-5.08) 4(0,-7.62) 5(0,-10.16) 6(0,-12.7) 7(0,-15.24) 8(0,-17.78) 9(0,-20.32) 10(0,-22.86) 11(0,-25.4) 12(0,-27.94) 13(0,-30.48) 14(0,-33.02) 15(0,-35.56) 16(0,-38.1) 17(0,-40.64) 18(0,-43.18) 19(0,-45.72) 20(0,-48.26) 21(0,-50.8) 22(0,-53.34) 23(0,-55.88) 24(0,-58.42)
F.SilkS:
  lines w0.254: -10.09,-57.15 -1.46,-57.15 ; -10.09,-54.61 -1.46,-54.61 ; -10.09,-52.07 -1.46,-52.07 ; -10.09,-49.53 -1.46,-49.53 ; -10.09,-46.99 -1.46,-46.99 ; -10.09,-44.45 -1.46,-44.45 ; -10.09,-41.91 -1.46,-41.91 ; -10.09,-39.37 -1.46,-39.37 ; -10.09,-36.83 -1.46,-36.83 ; -10.09,-34.29 -1.46,-34.29 ; -10.09,-31.75 -1.46,-31.75 ; -10.09,-29.21 -1.46,-29.21 ; -10.09,-26.67 -1.46,-26.67 ; -10.09,-24.13 -1.46,-24.13 ; -10.09,-21.59 -1.46,-21.59 ; -10.09,-19.05 -1.46,-19.05 ; -10.09,-16.51 -1.46,-16.51 ; -10.09,-13.97 -1.46,-13.97 ; -10.09,-11.43 -1.46,-11.43 ; -10.09,-8.89 -1.46,-8.89 ; -10.09,-6.35 -1.46,-6.35 ; -10.09,-3.81 -1.46,-3.81 ; -10.09,-1.27 -1.46,-1.27 ; -10.09,-1.152 -1.46,-1.152 ; -10.09,-1.034 -1.46,-1.034 ; -10.09,-0.916 -1.46,-0.916 ; -10.09,-0.798 -1.46,-0.798 ; -10.09,-0.68 -1.46,-0.68 ; -10.09,-0.561 -1.46,-0.561 ; -10.09,-0.443 -1.46,-0.443 ; -10.09,-0.325 -1.46,-0.325 ; -10.09,-0.207 -1.46,-0.207 ; -10.09,-0.089 -1.46,-0.089 ; -10.09,0.029 -1.46,0.029 ; -10.09,0.147 -1.46,0.147 ; -10.09,0.265 -1.46,0.265 ; -10.09,0.383 -1.46,0.383 ; -10.09,0.501 -1.46,0.501 ; -10.09,0.62 -1.46,0.62 ; -10.09,0.738 -1.46,0.738 ; -10.09,0.856 -1.46,0.856 ; -10.09,0.974 -1.46,0.974 ; -10.09,1.092 -1.46,1.092 ; -10.09,1.21 -1.46,1.21 ; -1.46,-58.78 -1.05,-58.78 ; -1.46,-58.06 -1.05,-58.06 ; -1.46,-56.24 -1.05,-56.24 ; -1.46,-55.52 -1.05,-55.52 ; -1.46,-53.7 -1.05,-53.7 ; -1.46,-52.98 -1.05,-52.98 ; -1.46,-51.16 -1.05,-51.16 ; -1.46,-50.44 -1.05,-50.44 ; -1.46,-48.62 -1.05,-48.62 ; -1.46,-47.9 -1.05,-47.9 ; -1.46,-46.08 -1.05,-46.08 ; -1.46,-45.36 -1.05,-45.36 ; -1.46,-43.54 -1.05,-43.54 ; -1.46,-42.82 -1.05,-42.82 ; -1.46,-41 -1.05,-41 ; -1.46,-40.28 -1.05,-40.28 ; -1.46,-38.46 -1.05,-38.46 ; -1.46,-37.74 -1.05,-37.74 ; -1.46,-35.92 -1.05,-35.92 ; -1.46,-35.2 -1.05,-35.2 ; -1.46,-33.38 -1.05,-33.38 ; -1.46,-32.66 -1.05,-32.66 ; -1.46,-30.84 -1.05,-30.84 ; -1.46,-30.12 -1.05,-30.12 ; -1.46,-28.3 -1.05,-28.3 ; -1.46,-27.58 -1.05,-27.58 ; -1.46,-25.76 -1.05,-25.76 ; -1.46,-25.04 -1.05,-25.04 ; -1.46,-23.22 -1.05,-23.22 ; -1.46,-22.5 -1.05,-22.5 ; -1.46,-20.68 -1.05,-20.68 ; -1.46,-19.96 -1.05,-19.96 ; -1.46,-18.14 -1.05,-18.14 ; -1.46,-17.42 -1.05,-17.42 ; -1.46,-15.6 -1.05,-15.6 ; -1.46,-14.88 -1.05,-14.88 ; -1.46,-13.06 -1.05,-13.06 ; -1.46,-12.34 -1.05,-12.34 ; -1.46,-10.52 -1.05,-10.52 ; -1.46,-9.8 -1.05,-9.8 ; -1.46,-7.98 -1.05,-7.98 ; -1.46,-7.26 -1.05,-7.26 ; -1.46,-5.44 -1.05,-5.44 ; -1.46,-4.72 -1.05,-4.72 ; -1.46,-2.9 -1.05,-2.9 ; -1.46,-2.18 -1.05,-2.18 ; -1.46,-0.36 -1.11,-0.36 ; -1.46,0.36 -1.11,0.36 ; 0,1.33 1.11,1.33 1.11,0 ; -10.09,-59.75 -1.46,-59.75 -1.46,1.33 -10.09,1.33 -10.09,-59.75
Top Assembly:
  lines w0.254: -1.52,-58.72 0,-58.72 0,-58.12 -1.52,-58.12 ; -1.52,-56.18 0,-56.18 0,-55.58 -1.52,-55.58 ; -1.52,-53.64 0,-53.64 0,-53.04 -1.52,-53.04 ; -1.52,-51.1 0,-51.1 0,-50.5 -1.52,-50.5 ; -1.52,-48.56 0,-48.56 0,-47.96 -1.52,-47.96 ; -1.52,-46.02 0,-46.02 0,-45.42 -1.52,-45.42 ; -1.52,-43.48 0,-43.48 0,-42.88 -1.52,-42.88 ; -1.52,-40.94 0,-40.94 0,-40.34 -1.52,-40.34 ; -1.52,-38.4 0,-38.4 0,-37.8 -1.52,-37.8 ; -1.52,-35.86 0,-35.86 0,-35.26 -1.52,-35.26 ; -1.52,-33.32 0,-33.32 0,-32.72 -1.52,-32.72 ; -1.52,-30.78 0,-30.78 0,-30.18 -1.52,-30.18 ; -1.52,-28.24 0,-28.24 0,-27.64 -1.52,-27.64 ; -1.52,-25.7 0,-25.7 0,-25.1 -1.52,-25.1 ; -1.52,-23.16 0,-23.16 0,-22.56 -1.52,-22.56 ; -1.52,-20.62 0,-20.62 0,-20.02 -1.52,-20.02 ; -1.52,-18.08 0,-18.08 0,-17.48 -1.52,-17.48 ; -1.52,-15.54 0,-15.54 0,-14.94 -1.52,-14.94 ; -1.52,-13 0,-13 0,-12.4 -1.52,-12.4 ; -1.52,-10.46 0,-10.46 0,-9.86 -1.52,-9.86 ; -1.52,-7.92 0,-7.92 0,-7.32 -1.52,-7.32 ; -1.52,-5.38 0,-5.38 0,-4.78 -1.52,-4.78 ; -1.52,-2.84 0,-2.84 0,-2.24 -1.52,-2.24 ; -1.52,-0.3 0,-0.3 0,0.3 -1.52,0.3 ; -1.52,0.3 -1.52,-59.69 -10.03,-59.69 -10.03,1.27 -2.49,1.27 -1.52,0.3
  text "'.Designator'" at -4.935,-33.257 h1
Top Courtyard:
  lines w0.254: -10.55,-60.25 1.75,-60.25 1.75,1.75 -10.55,1.75 -10.55,-60.25
Top Designator:
  text ".Designator" at -12.018,-29.758 h1.52

## PinSocket_1x24_P2.54mm_Vertical [mm]
pads (24):
  rect 1.7x1.7 hole 1: 1(0,0)
  round 1.7 hole 1: 2(0,-2.54) 3(0,-5.08) 4(0,-7.62) 5(0,-10.16) 6(0,-12.7) 7(0,-15.24) 8(0,-17.78) 9(0,-20.32) 10(0,-22.86) 11(0,-25.4) 12(0,-27.94) 13(0,-30.48) 14(0,-33.02) 15(0,-35.56) 16(0,-38.1) 17(0,-40.64) 18(0,-43.18) 19(0,-45.72) 20(0,-48.26) 21(0,-50.8) 22(0,-53.34) 23(0,-55.88) 24(0,-58.42)
F.SilkS:
  lines w0.254: 0,1.33 1.33,1.33 1.33,0 ; -1.33,-59.75 1.33,-59.75 1.33,-1.27 -1.33,-1.27 -1.33,-59.75
Top Assembly:
  lines w0.254: -1.27,-59.69 1.27,-59.69 1.27,0.635 0.635,1.27 -1.27,1.27 -1.27,-59.69
  text "'.Designator'" at 0.84,-33.257 h1
Top Courtyard:
  lines w0.254: -1.8,-60.2 1.75,-60.2 1.75,1.8 -1.8,1.8 -1.8,-60.2
Top Designator:
  text ".Designator" at -7.643,-29.708 h1.52

## PinSocket_1x24_P2.54mm_Vertical_SMD_Pin1Left [mm]
pads (24):
  rect 1.9x1 smd: 1(-1.65,29.21) 2(1.65,26.67) 3(-1.65,24.13) 4(1.65,21.59) 5(-1.65,19.05) 6(1.65,16.51) 7(-1.65,13.97) 8(1.65,11.43) 9(-1.65,8.89) 10(1.65,6.35) 11(-1.65,3.81) 12(1.65,1.27) 13(-1.65,-1.27) 14(1.65,-3.81) 15(-1.65,-6.35) 16(1.65,-8.89) 17(-1.65,-11.43) 18(1.65,-13.97) 19(-1.65,-16.51) 20(1.65,-19.05) 21(-1.65,-21.59) 22(1.65,-24.13) 23(-1.65,-26.67) 24(1.65,-29.21)
F.SilkS:
  lines w0.254: -2.54,29.97 -1.33,29.97 -1.33,30.64 1.33,30.64 1.33,27.43 ; -1.33,-27.43 -1.33,-30.64 1.33,-30.64 1.33,-29.97 ; -1.33,-25.91 -1.33,-22.35 ; -1.33,-20.83 -1.33,-17.27 ; -1.33,-15.75 -1.33,-12.19 ; -1.33,-10.67 -1.33,-7.11 ; -1.33,-5.59 -1.33,-2.03 ; -1.33,-0.51 -1.33,3.05 ; -1.33,4.57 -1.33,8.13 ; -1.33,9.65 -1.33,13.21 ; -1.33,14.73 -1.33,18.29 ; -1.33,19.81 -1.33,23.37 ; -1.33,24.89 -1.33,28.45 ; 1.33,-28.45 1.33,-24.89 ; 1.33,-23.37 1.33,-19.81 ; 1.33,-18.29 1.33,-14.73 ; 1.33,-13.21 1.33,-9.65 ; 1.33,-8.13 1.33,-4.57 ; 1.33,-3.05 1.33,0.51 ; 1.33,2.03 1.33,5.59 ; 1.33,7.11 1.33,10.67 ; 1.33,12.19 1.33,15.75 ; 1.33,17.27 1.33,20.83 ; 1.33,22.35 1.33,25.91
Top Assembly:
  lines w0.254: -1.27,-26.97 -2.27,-26.97 -2.27,-26.37 -1.27,-26.37 ; -1.27,-21.89 -2.27,-21.89 -2.27,-21.29 -1.27,-21.29 ; -1.27,-16.81 -2.27,-16.81 -2.27,-16.21 -1.27,-16.21 ; -1.27,-11.73 -2.27,-11.73 -2.27,-11.13 -1.27,-11.13 ; -1.27,-6.65 -2.27,-6.65 -2.27,-6.05 -1.27,-6.05 ; -1.27,-1.57 -2.27,-1.57 -2.27,-0.97 -1.27,-0.97 ; -1.27,3.51 -2.27,3.51 -2.27,4.11 -1.27,4.11 ; -1.27,8.59 -2.27,8.59 -2.27,9.19 -1.27,9.19 ; -1.27,13.67 -2.27,13.67 -2.27,14.27 -1.27,14.27 ; -1.27,18.75 -2.27,18.75 -2.27,19.35 -1.27,19.35 ; -1.27,23.83 -2.27,23.83 -2.27,24.43 -1.27,24.43 ; -1.27,28.91 -2.27,28.91 -2.27,29.51 -1.27,29.51 ; 1.27,-29.51 2.27,-29.51 2.27,-28.91 1.27,-28.91 ; 1.27,-24.43 2.27,-24.43 2.27,-23.83 1.27,-23.83 ; 1.27,-19.35 2.27,-19.35 2.27,-18.75 1.27,-18.75 ; 1.27,-14.27 2.27,-14.27 2.27,-13.67 1.27,-13.67 ; 1.27,-9.19 2.27,-9.19 2.27,-8.59 1.27,-8.59 ; 1.27,-4.11 2.27,-4.11 2.27,-3.51 1.27,-3.51 ; 1.27,0.97 2.27,0.97 2.27,1.57 1.27,1.57 ; 1.27,6.05 2.27,6.05 2.27,6.65 1.27,6.65 ; 1.27,11.13 2.27,11.13 2.27,11.73 1.27,11.73 ; 1.27,16.21 2.27,16.21 2.27,16.81 1.27,16.81 ; 1.27,21.29 2.27,21.29 2.27,21.89 1.27,21.89 ; 1.27,26.37 2.27,26.37 2.27,26.97 1.27,26.97 ; -1.27,-30.58 1.27,-30.58 1.27,30.58 -0.635,30.58 -1.27,29.945 -1.27,-30.58
  text "'.Designator'" at 0.84,-4.047 h1
Top Courtyard:
  lines w0.254: -3.1,-31.1 3.1,-31.1 3.1,31.1 -3.1,31.1 -3.1,-31.1
Top Designator:
  text ".Designator" at -7.618,-0.508 h1.52

## PinSocket_1x24_P2.54mm_Vertical_SMD_Pin1Right [mm]
pads (24):
  rect 1.9x1 smd: 1(1.65,29.21) 2(-1.65,26.67) 3(1.65,24.13) 4(-1.65,21.59) 5(1.65,19.05) 6(-1.65,16.51) 7(1.65,13.97) 8(-1.65,11.43) 9(1.65,8.89) 10(-1.65,6.35) 11(1.65,3.81) 12(-1.65,1.27) 13(1.65,-1.27) 14(-1.65,-3.81) 15(1.65,-6.35) 16(-1.65,-8.89) 17(1.65,-11.43) 18(-1.65,-13.97) 19(1.65,-16.51) 20(-1.65,-19.05) 21(1.65,-21.59) 22(-1.65,-24.13) 23(1.65,-26.67) 24(-1.65,-29.21)
F.SilkS:
  lines w0.254: -1.33,-29.97 -1.33,-30.64 1.33,-30.64 1.33,-27.43 ; -1.33,-28.45 -1.33,-24.89 ; -1.33,-23.37 -1.33,-19.81 ; -1.33,-18.29 -1.33,-14.73 ; -1.33,-13.21 -1.33,-9.65 ; -1.33,-8.13 -1.33,-4.57 ; -1.33,-3.05 -1.33,0.51 ; -1.33,2.03 -1.33,5.59 ; -1.33,7.11 -1.33,10.67 ; -1.33,12.19 -1.33,15.75 ; -1.33,17.27 -1.33,20.83 ; -1.33,22.35 -1.33,25.91 ; -1.33,27.43 -1.33,30.64 1.33,30.64 1.33,29.97 2.54,29.97 ; 1.33,-25.91 1.33,-22.35 ; 1.33,-20.83 1.33,-17.27 ; 1.33,-15.75 1.33,-12.19 ; 1.33,-10.67 1.33,-7.11 ; 1.33,-5.59 1.33,-2.03 ; 1.33,-0.51 1.33,3.05 ; 1.33,4.57 1.33,8.13 ; 1.33,9.65 1.33,13.21 ; 1.33,14.73 1.33,18.29 ; 1.33,19.81 1.33,23.37 ; 1.33,24.89 1.33,28.45
Top Assembly:
  lines w0.254: -1.27,-29.51 -2.27,-29.51 -2.27,-28.91 -1.27,-28.91 ; -1.27,-24.43 -2.27,-24.43 -2.27,-23.83 -1.27,-23.83 ; -1.27,-19.35 -2.27,-19.35 -2.27,-18.75 -1.27,-18.75 ; -1.27,-14.27 -2.27,-14.27 -2.27,-13.67 -1.27,-13.67 ; -1.27,-9.19 -2.27,-9.19 -2.27,-8.59 -1.27,-8.59 ; -1.27,-4.11 -2.27,-4.11 -2.27,-3.51 -1.27,-3.51 ; -1.27,0.97 -2.27,0.97 -2.27,1.57 -1.27,1.57 ; -1.27,6.05 -2.27,6.05 -2.27,6.65 -1.27,6.65 ; -1.27,11.13 -2.27,11.13 -2.27,11.73 -1.27,11.73 ; -1.27,16.21 -2.27,16.21 -2.27,16.81 -1.27,16.81 ; -1.27,21.29 -2.27,21.29 -2.27,21.89 -1.27,21.89 ; -1.27,26.37 -2.27,26.37 -2.27,26.97 -1.27,26.97 ; 1.27,-26.97 2.27,-26.97 2.27,-26.37 1.27,-26.37 ; 1.27,-21.89 2.27,-21.89 2.27,-21.29 1.27,-21.29 ; 1.27,-16.81 2.27,-16.81 2.27,-16.21 1.27,-16.21 ; 1.27,-11.73 2.27,-11.73 2.27,-11.13 1.27,-11.13 ; 1.27,-6.65 2.27,-6.65 2.27,-6.05 1.27,-6.05 ; 1.27,-1.57 2.27,-1.57 2.27,-0.97 1.27,-0.97 ; 1.27,3.51 2.27,3.51 2.27,4.11 1.27,4.11 ; 1.27,8.59 2.27,8.59 2.27,9.19 1.27,9.19 ; 1.27,13.67 2.27,13.67 2.27,14.27 1.27,14.27 ; 1.27,18.75 2.27,18.75 2.27,19.35 1.27,19.35 ; 1.27,23.83 2.27,23.83 2.27,24.43 1.27,24.43 ; 1.27,28.91 2.27,28.91 2.27,29.51 1.27,29.51 ; -1.27,-30.58 1.27,-30.58 1.27,29.945 0.635,30.58 -1.27,30.58 -1.27,-30.58
  text "'.Designator'" at 0.84,-4.047 h1
Top Courtyard:
  lines w0.254: -3.1,-31.1 3.1,-31.1 3.1,31.1 -3.1,31.1 -3.1,-31.1
Top Designator:
  text ".Designator" at -7.618,-0.508 h1.52

## PinSocket_1x25_P2.54mm_Horizontal [mm]
pads (25):
  rect 1.7x1.7 hole 1: 1(0,0)
  round 1.7 hole 1: 2(0,-2.54) 3(0,-5.08) 4(0,-7.62) 5(0,-10.16) 6(0,-12.7) 7(0,-15.24) 8(0,-17.78) 9(0,-20.32) 10(0,-22.86) 11(0,-25.4) 12(0,-27.94) 13(0,-30.48) 14(0,-33.02) 15(0,-35.56) 16(0,-38.1) 17(0,-40.64) 18(0,-43.18) 19(0,-45.72) 20(0,-48.26) 21(0,-50.8) 22(0,-53.34) 23(0,-55.88) 24(0,-58.42) 25(0,-60.96)
F.SilkS:
  lines w0.254: -10.09,-59.69 -1.46,-59.69 ; -10.09,-57.15 -1.46,-57.15 ; -10.09,-54.61 -1.46,-54.61 ; -10.09,-52.07 -1.46,-52.07 ; -10.09,-49.53 -1.46,-49.53 ; -10.09,-46.99 -1.46,-46.99 ; -10.09,-44.45 -1.46,-44.45 ; -10.09,-41.91 -1.46,-41.91 ; -10.09,-39.37 -1.46,-39.37 ; -10.09,-36.83 -1.46,-36.83 ; -10.09,-34.29 -1.46,-34.29 ; -10.09,-31.75 -1.46,-31.75 ; -10.09,-29.21 -1.46,-29.21 ; -10.09,-26.67 -1.46,-26.67 ; -10.09,-24.13 -1.46,-24.13 ; -10.09,-21.59 -1.46,-21.59 ; -10.09,-19.05 -1.46,-19.05 ; -10.09,-16.51 -1.46,-16.51 ; -10.09,-13.97 -1.46,-13.97 ; -10.09,-11.43 -1.46,-11.43 ; -10.09,-8.89 -1.46,-8.89 ; -10.09,-6.35 -1.46,-6.35 ; -10.09,-3.81 -1.46,-3.81 ; -10.09,-1.27 -1.46,-1.27 ; -10.09,-1.152 -1.46,-1.152 ; -10.09,-1.034 -1.46,-1.034 ; -10.09,-0.916 -1.46,-0.916 ; -10.09,-0.798 -1.46,-0.798 ; -10.09,-0.68 -1.46,-0.68 ; -10.09,-0.561 -1.46,-0.561 ; -10.09,-0.443 -1.46,-0.443 ; -10.09,-0.325 -1.46,-0.325 ; -10.09,-0.207 -1.46,-0.207 ; -10.09,-0.089 -1.46,-0.089 ; -10.09,0.029 -1.46,0.029 ; -10.09,0.147 -1.46,0.147 ; -10.09,0.265 -1.46,0.265 ; -10.09,0.383 -1.46,0.383 ; -10.09,0.501 -1.46,0.501 ; -10.09,0.62 -1.46,0.62 ; -10.09,0.738 -1.46,0.738 ; -10.09,0.856 -1.46,0.856 ; -10.09,0.974 -1.46,0.974 ; -10.09,1.092 -1.46,1.092 ; -10.09,1.21 -1.46,1.21 ; -1.46,-61.32 -1.05,-61.32 ; -1.46,-60.6 -1.05,-60.6 ; -1.46,-58.78 -1.05,-58.78 ; -1.46,-58.06 -1.05,-58.06 ; -1.46,-56.24 -1.05,-56.24 ; -1.46,-55.52 -1.05,-55.52 ; -1.46,-53.7 -1.05,-53.7 ; -1.46,-52.98 -1.05,-52.98 ; -1.46,-51.16 -1.05,-51.16 ; -1.46,-50.44 -1.05,-50.44 ; -1.46,-48.62 -1.05,-48.62 ; -1.46,-47.9 -1.05,-47.9 ; -1.46,-46.08 -1.05,-46.08 ; -1.46,-45.36 -1.05,-45.36 ; -1.46,-43.54 -1.05,-43.54 ; -1.46,-42.82 -1.05,-42.82 ; -1.46,-41 -1.05,-41 ; -1.46,-40.28 -1.05,-40.28 ; -1.46,-38.46 -1.05,-38.46 ; -1.46,-37.74 -1.05,-37.74 ; -1.46,-35.92 -1.05,-35.92 ; -1.46,-35.2 -1.05,-35.2 ; -1.46,-33.38 -1.05,-33.38 ; -1.46,-32.66 -1.05,-32.66 ; -1.46,-30.84 -1.05,-30.84 ; -1.46,-30.12 -1.05,-30.12 ; -1.46,-28.3 -1.05,-28.3 ; -1.46,-27.58 -1.05,-27.58 ; -1.46,-25.76 -1.05,-25.76 ; -1.46,-25.04 -1.05,-25.04 ; -1.46,-23.22 -1.05,-23.22 ; -1.46,-22.5 -1.05,-22.5 ; -1.46,-20.68 -1.05,-20.68 ; -1.46,-19.96 -1.05,-19.96 ; -1.46,-18.14 -1.05,-18.14 ; -1.46,-17.42 -1.05,-17.42 ; -1.46,-15.6 -1.05,-15.6 ; -1.46,-14.88 -1.05,-14.88 ; -1.46,-13.06 -1.05,-13.06 ; -1.46,-12.34 -1.05,-12.34 ; -1.46,-10.52 -1.05,-10.52 ; -1.46,-9.8 -1.05,-9.8 ; -1.46,-7.98 -1.05,-7.98 ; -1.46,-7.26 -1.05,-7.26 ; -1.46,-5.44 -1.05,-5.44 ; -1.46,-4.72 -1.05,-4.72 ; -1.46,-2.9 -1.05,-2.9 ; -1.46,-2.18 -1.05,-2.18 ; -1.46,-0.36 -1.11,-0.36 ; -1.46,0.36 -1.11,0.36 ; 0,1.33 1.11,1.33 1.11,0 ; -10.09,-62.29 -1.46,-62.29 -1.46,1.33 -10.09,1.33 -10.09,-62.29
Top Assembly:
  lines w0.254: -1.52,-61.26 0,-61.26 0,-60.66 -1.52,-60.66 ; -1.52,-58.72 0,-58.72 0,-58.12 -1.52,-58.12 ; -1.52,-56.18 0,-56.18 0,-55.58 -1.52,-55.58 ; -1.52,-53.64 0,-53.64 0,-53.04 -1.52,-53.04 ; -1.52,-51.1 0,-51.1 0,-50.5 -1.52,-50.5 ; -1.52,-48.56 0,-48.56 0,-47.96 -1.52,-47.96 ; -1.52,-46.02 0,-46.02 0,-45.42 -1.52,-45.42 ; -1.52,-43.48 0,-43.48 0,-42.88 -1.52,-42.88 ; -1.52,-40.94 0,-40.94 0,-40.34 -1.52,-40.34 ; -1.52,-38.4 0,-38.4 0,-37.8 -1.52,-37.8 ; -1.52,-35.86 0,-35.86 0,-35.26 -1.52,-35.26 ; -1.52,-33.32 0,-33.32 0,-32.72 -1.52,-32.72 ; -1.52,-30.78 0,-30.78 0,-30.18 -1.52,-30.18 ; -1.52,-28.24 0,-28.24 0,-27.64 -1.52,-27.64 ; -1.52,-25.7 0,-25.7 0,-25.1 -1.52,-25.1 ; -1.52,-23.16 0,-23.16 0,-22.56 -1.52,-22.56 ; -1.52,-20.62 0,-20.62 0,-20.02 -1.52,-20.02 ; -1.52,-18.08 0,-18.08 0,-17.48 -1.52,-17.48 ; -1.52,-15.54 0,-15.54 0,-14.94 -1.52,-14.94 ; -1.52,-13 0,-13 0,-12.4 -1.52,-12.4 ; -1.52,-10.46 0,-10.46 0,-9.86 -1.52,-9.86 ; -1.52,-7.92 0,-7.92 0,-7.32 -1.52,-7.32 ; -1.52,-5.38 0,-5.38 0,-4.78 -1.52,-4.78 ; -1.52,-2.84 0,-2.84 0,-2.24 -1.52,-2.24 ; -1.52,-0.3 0,-0.3 0,0.3 -1.52,0.3 ; -1.52,0.3 -1.52,-62.23 -10.03,-62.23 -10.03,1.27 -2.49,1.27 -1.52,0.3
  text "'.Designator'" at -4.935,-34.527 h1
Top Courtyard:
  lines w0.254: -10.55,-62.75 1.75,-62.75 1.75,1.75 -10.55,1.75 -10.55,-62.75
Top Designator:
  text ".Designator" at -12.018,-31.008 h1.52

## PinSocket_1x25_P2.54mm_Vertical [mm]
pads (25):
  rect 1.7x1.7 hole 1: 1(0,0)
  round 1.7 hole 1: 2(0,-2.54) 3(0,-5.08) 4(0,-7.62) 5(0,-10.16) 6(0,-12.7) 7(0,-15.24) 8(0,-17.78) 9(0,-20.32) 10(0,-22.86) 11(0,-25.4) 12(0,-27.94) 13(0,-30.48) 14(0,-33.02) 15(0,-35.56) 16(0,-38.1) 17(0,-40.64) 18(0,-43.18) 19(0,-45.72) 20(0,-48.26) 21(0,-50.8) 22(0,-53.34) 23(0,-55.88) 24(0,-58.42) 25(0,-60.96)
F.SilkS:
  lines w0.254: 0,1.33 1.33,1.33 1.33,0 ; -1.33,-62.29 1.33,-62.29 1.33,-1.27 -1.33,-1.27 -1.33,-62.29
Top Assembly:
  lines w0.254: -1.27,-62.23 1.27,-62.23 1.27,0.635 0.635,1.27 -1.27,1.27 -1.27,-62.23
  text "'.Designator'" at 0.84,-34.527 h1
Top Courtyard:
  lines w0.254: -1.8,-62.7 1.75,-62.7 1.75,1.8 -1.8,1.8 -1.8,-62.7
Top Designator:
  text ".Designator" at -7.643,-30.958 h1.52